# EAGLE library part LFXP20C_XXF484 (library lattice1)
lfxp20c_fpbga484 edit this description Auto generated by make-symbol-device-package-bsdl.ulp Rev. 20 Source: lfxp20c_fpbga484.bsm
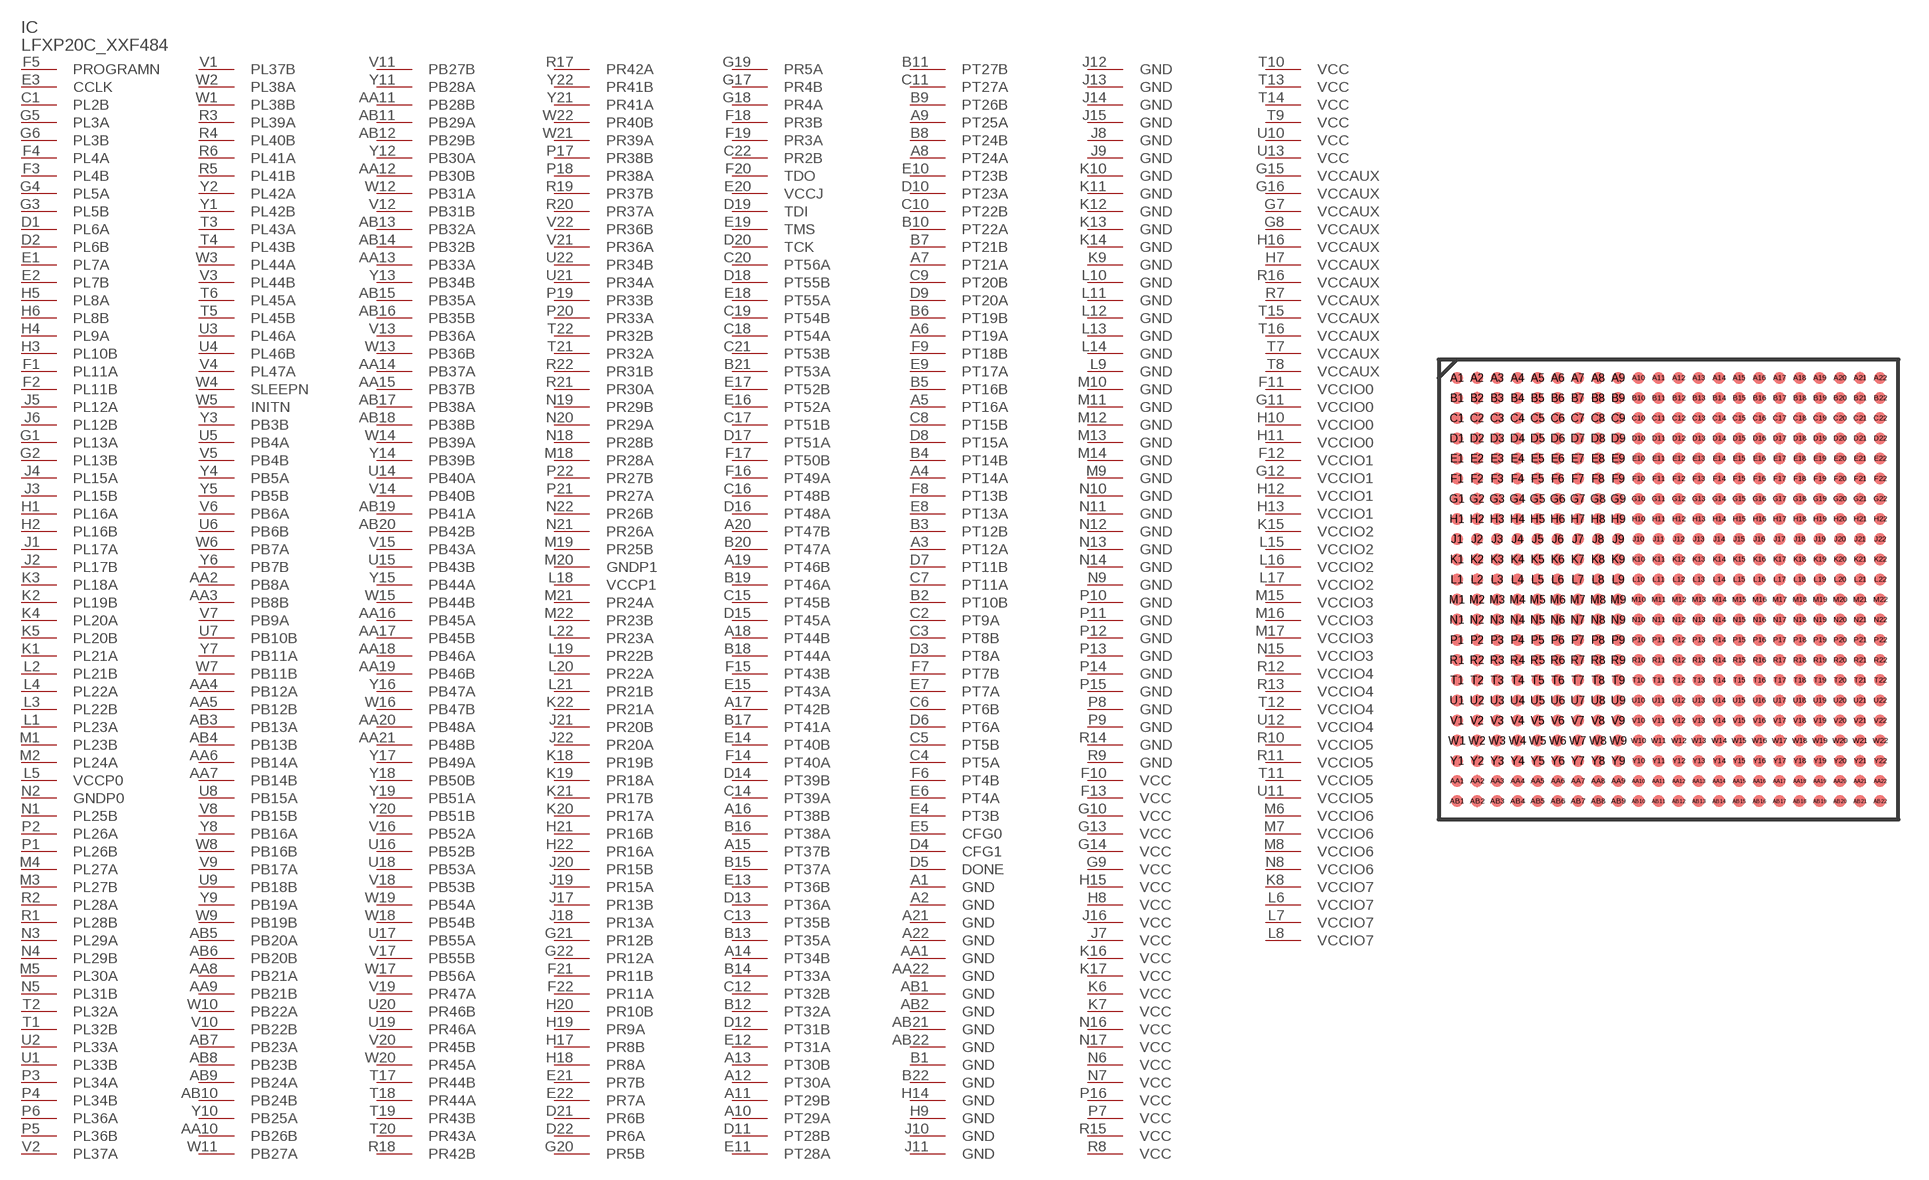
[diagram p24: symbol with the pads of FPBGA_484; footprint FPBGA_484]

Designator prefix IC

## LFXP20C_XXF484  [FPBGA_484]
A1  GND  pwr
A2  GND  pwr
A3  PT12A
A4  PT14A
A5  PT16A
A6  PT19A
A7  PT21A
A8  PT24A
A9  PT25A
A10  PT29A
A11  PT29B
A12  PT30A
A13  PT30B
A14  PT34B
A15  PT37B
A16  PT38B
A17  PT42B
A18  PT44B
A19  PT46B
A20  PT47B
A21  GND  pwr
A22  GND  pwr
AA1  GND  pwr
AA2  PB8A
AA3  PB8B
AA4  PB12A
AA5  PB12B
AA6  PB14A
AA7  PB14B
AA8  PB21A
AA9  PB21B
AA10  PB26B
AA11  PB28B
AA12  PB30B
AA13  PB33A
AA14  PB37A
AA15  PB37B
AA16  PB45A
AA17  PB45B
AA18  PB46A
AA19  PB46B
AA20  PB48A
AA21  PB48B
AA22  GND  pwr
AB1  GND  pwr
AB2  GND  pwr
AB3  PB13A
AB4  PB13B
AB5  PB20A
AB6  PB20B
AB7  PB23A
AB8  PB23B
AB9  PB24A
AB10  PB24B
AB11  PB29A
AB12  PB29B
AB13  PB32A
AB14  PB32B
AB15  PB35A
AB16  PB35B
AB17  PB38A
AB18  PB38B
AB19  PB41A
AB20  PB42B
AB21  GND  pwr
AB22  GND  pwr
B1  GND  pwr
B2  PT10B
B3  PT12B
B4  PT14B
B5  PT16B
B6  PT19B
B7  PT21B
B8  PT24B
B9  PT26B
B10  PT22A
B11  PT27B
B12  PT32A
B13  PT35A
B14  PT33A
B15  PT37A
B16  PT38A
B17  PT41A
B18  PT44A
B19  PT46A
B20  PT47A
B21  PT53A
B22  GND  pwr
C1  PL2B
C2  PT9A
C3  PT8B
C4  PT5A
C5  PT5B
C6  PT6B
C7  PT11A
C8  PT15B
C9  PT20B
C10  PT22B
C11  PT27A
C12  PT32B
C13  PT35B
C14  PT39A
C15  PT45B
C16  PT48B
C17  PT51B
C18  PT54A
C19  PT54B
C20  PT56A
C21  PT53B
C22  PR2B
D1  PL6A
D2  PL6B
D3  PT8A
D4  CFG1  in
D5  DONE
D6  PT6A
D7  PT11B
D8  PT15A
D9  PT20A
D10  PT23A
D11  PT28B
D12  PT31B
D13  PT36A
D14  PT39B
D15  PT45A
D16  PT48A
D17  PT51A
D18  PT55B
D19  TDI  in
D20  TCK  in
D21  PR6B
D22  PR6A
E1  PL7A
E2  PL7B
E3  CCLK
E4  PT3B
E5  CFG0  in
E6  PT4A
E7  PT7A
E8  PT13A
E9  PT17A
E10  PT23B
E11  PT28A
E12  PT31A
E13  PT36B
E14  PT40B
E15  PT43A
E16  PT52A
E17  PT52B
E18  PT55A
E19  TMS  in
E20  VCCJ  pwr
E21  PR7B
E22  PR7A
F1  PL11A
F2  PL11B
F3  PL4B
F4  PL4A
F5  PROGRAMN  in
F6  PT4B
F7  PT7B
F8  PT13B
F9  PT18B
F10  VCC  pwr
F11  VCCIO0  pwr
F12  VCCIO1  pwr
F13  VCC  pwr
F14  PT40A
F15  PT43B
F16  PT49A
F17  PT50B
F18  PR3B
F19  PR3A
F20  TDO  out
F21  PR11B
F22  PR11A
G1  PL13A
G2  PL13B
G3  PL5B
G4  PL5A
G5  PL3A
G6  PL3B
G7  VCCAUX  pwr
G8  VCCAUX  pwr
G9  VCC  pwr
G10  VCC  pwr
G11  VCCIO0  pwr
G12  VCCIO1  pwr
G13  VCC  pwr
G14  VCC  pwr
G15  VCCAUX  pwr
G16  VCCAUX  pwr
G17  PR4B
G18  PR4A
G19  PR5A
G20  PR5B
G21  PR12B
G22  PR12A
H1  PL16A
H2  PL16B
H3  PL10B
H4  PL9A
H5  PL8A
H6  PL8B
H7  VCCAUX  pwr
H8  VCC  pwr
H9  GND  pwr
H10  VCCIO0  pwr
H11  VCCIO0  pwr
H12  VCCIO1  pwr
H13  VCCIO1  pwr
H14  GND  pwr
H15  VCC  pwr
H16  VCCAUX  pwr
H17  PR8B
H18  PR8A
H19  PR9A
H20  PR10B
H21  PR16B
H22  PR16A
J1  PL17A
J2  PL17B
J3  PL15B
J4  PL15A
J5  PL12A
J6  PL12B
J7  VCC  pwr
J8  GND  pwr
J9  GND  pwr
J10  GND  pwr
J11  GND  pwr
J12  GND  pwr
J13  GND  pwr
J14  GND  pwr
J15  GND  pwr
J16  VCC  pwr
J17  PR13B
J18  PR13A
J19  PR15A
J20  PR15B
J21  PR20B
J22  PR20A
K1  PL21A
K2  PL19B
K3  PL18A
K4  PL20A
K5  PL20B
K6  VCC  pwr
K7  VCC  pwr
K8  VCCIO7  pwr
K9  GND  pwr
K10  GND  pwr
K11  GND  pwr
K12  GND  pwr
K13  GND  pwr
K14  GND  pwr
K15  VCCIO2  pwr
K16  VCC  pwr
K17  VCC  pwr
K18  PR19B
K19  PR18A
K20  PR17A
K21  PR17B
K22  PR21A
L1  PL23A
L2  PL21B
L3  PL22B
L4  PL22A
L5  VCCP0  pwr
L6  VCCIO7  pwr
L7  VCCIO7  pwr
L8  VCCIO7  pwr
L9  GND  pwr
L10  GND  pwr
L11  GND  pwr
L12  GND  pwr
L13  GND  pwr
L14  GND  pwr
L15  VCCIO2  pwr
L16  VCCIO2  pwr
L17  VCCIO2  pwr
L18  VCCP1  pwr
L19  PR22B
L20  PR22A
L21  PR21B
L22  PR23A
M1  PL23B
M2  PL24A
M3  PL27B
M4  PL27A
M5  PL30A
M6  VCCIO6  pwr
M7  VCCIO6  pwr
M8  VCCIO6  pwr
M9  GND  pwr
M10  GND  pwr
M11  GND  pwr
M12  GND  pwr
M13  GND  pwr
M14  GND  pwr
M15  VCCIO3  pwr
M16  VCCIO3  pwr
M17  VCCIO3  pwr
M18  PR28A
M19  PR25B
M20  GNDP1  pwr
M21  PR24A
M22  PR23B
N1  PL25B
N2  GNDP0  pwr
N3  PL29A
N4  PL29B
N5  PL31B
N6  VCC  pwr
N7  VCC  pwr
N8  VCCIO6  pwr
N9  GND  pwr
N10  GND  pwr
N11  GND  pwr
N12  GND  pwr
N13  GND  pwr
N14  GND  pwr
N15  VCCIO3  pwr
N16  VCC  pwr
N17  VCC  pwr
N18  PR28B
N19  PR29B
N20  PR29A
N21  PR26A
N22  PR26B
P1  PL26B
P2  PL26A
P3  PL34A
P4  PL34B
P5  PL36B
P6  PL36A
P7  VCC  pwr
P8  GND  pwr
P9  GND  pwr
P10  GND  pwr
P11  GND  pwr
P12  GND  pwr
P13  GND  pwr
P14  GND  pwr
P15  GND  pwr
P16  VCC  pwr
P17  PR38B
P18  PR38A
P19  PR33B
P20  PR33A
P21  PR27A
P22  PR27B
R1  PL28B
R2  PL28A
R3  PL39A
R4  PL40B
R5  PL41B
R6  PL41A
R7  VCCAUX  pwr
R8  VCC  pwr
R9  GND  pwr
R10  VCCIO5  pwr
R11  VCCIO5  pwr
R12  VCCIO4  pwr
R13  VCCIO4  pwr
R14  GND  pwr
R15  VCC  pwr
R16  VCCAUX  pwr
R17  PR42A
R18  PR42B
R19  PR37B
R20  PR37A
R21  PR30A
R22  PR31B
T1  PL32B
T2  PL32A
T3  PL43A
T4  PL43B
T5  PL45B
T6  PL45A
T7  VCCAUX  pwr
T8  VCCAUX  pwr
T9  VCC  pwr
T10  VCC  pwr
T11  VCCIO5  pwr
T12  VCCIO4  pwr
T13  VCC  pwr
T14  VCC  pwr
T15  VCCAUX  pwr
T16  VCCAUX  pwr
T17  PR44B
T18  PR44A
T19  PR43B
T20  PR43A
T21  PR32A
T22  PR32B
U1  PL33B
U2  PL33A
U3  PL46A
U4  PL46B
U5  PB4A
U6  PB6B
U7  PB10B
U8  PB15A
U9  PB18B
U10  VCC  pwr
U11  VCCIO5  pwr
U12  VCCIO4  pwr
U13  VCC  pwr
U14  PB40A
U15  PB43B
U16  PB52B
U17  PB55A
U18  PB53A
U19  PR46A
U20  PR46B
U21  PR34A
U22  PR34B
V1  PL37B
V2  PL37A
V3  PL44B
V4  PL47A
V5  PB4B
V6  PB6A
V7  PB9A
V8  PB15B
V9  PB17A
V10  PB22B
V11  PB27B
V12  PB31B
V13  PB36A
V14  PB40B
V15  PB43A
V16  PB52A
V17  PB55B
V18  PB53B
V19  PR47A
V20  PR45B
V21  PR36A
V22  PR36B
W1  PL38B
W2  PL38A
W3  PL44A
W4  SLEEPN  in
W5  INITN
W6  PB7A
W7  PB11B
W8  PB16B
W9  PB19B
W10  PB22A
W11  PB27A
W12  PB31A
W13  PB36B
W14  PB39A
W15  PB44B
W16  PB47B
W17  PB56A
W18  PB54B
W19  PB54A
W20  PR45A
W21  PR39A
W22  PR40B
Y1  PL42B
Y2  PL42A
Y3  PB3B
Y4  PB5A
Y5  PB5B
Y6  PB7B
Y7  PB11A
Y8  PB16A
Y9  PB19A
Y10  PB25A
Y11  PB28A
Y12  PB30A
Y13  PB34B
Y14  PB39B
Y15  PB44A
Y16  PB47A
Y17  PB49A
Y18  PB50B
Y19  PB51A
Y20  PB51B
Y21  PR41A
Y22  PR41B

## Footprint FPBGA_484 (pad centres in mm)
lfxp15c_fpbga484 edit this description Auto generated by make-symbol-device-package-bsdl.ulp Rev. 20 Source: lfxp15c_fpbga484.bsm
smd 0.6 x 0.6: A1 -10.5,10.5; A2 -9.5,10.5; A3 -8.5,10.5; A4 -7.5,10.5; A5 -6.5,10.5; A6 -5.5,10.5; A7 -4.5,10.5; A8 -3.5,10.5; A9 -2.5,10.5; A10 -1.5,10.5; A11 -0.5,10.5; A12 0.5,10.5; A13 1.5,10.5; A14 2.5,10.5; A15 3.5,10.5; A16 4.5,10.5; A17 5.5,10.5; A18 6.5,10.5; A19 7.5,10.5; A20 8.5,10.5; A21 9.5,10.5; A22 10.5,10.5; AA1 -10.5,-9.5; AA2 -9.5,-9.5; AA3 -8.5,-9.5; AA4 -7.5,-9.5; AA5 -6.5,-9.5; AA6 -5.5,-9.5; AA7 -4.5,-9.5; AA8 -3.5,-9.5; AA9 -2.5,-9.5; AA10 -1.5,-9.5; AA11 -0.5,-9.5; AA12 0.5,-9.5; AA13 1.5,-9.5; AA14 2.5,-9.5; AA15 3.5,-9.5; AA16 4.5,-9.5; AA17 5.5,-9.5; AA18 6.5,-9.5; AA19 7.5,-9.5; AA20 8.5,-9.5; AA21 9.5,-9.5; AA22 10.5,-9.5; AB1 -10.5,-10.5; AB2 -9.5,-10.5; AB3 -8.5,-10.5; AB4 -7.5,-10.5; AB5 -6.5,-10.5; AB6 -5.5,-10.5; AB7 -4.5,-10.5; AB8 -3.5,-10.5; AB9 -2.5,-10.5; AB10 -1.5,-10.5; AB11 -0.5,-10.5; AB12 0.5,-10.5; AB13 1.5,-10.5; AB14 2.5,-10.5; AB15 3.5,-10.5; AB16 4.5,-10.5; AB17 5.5,-10.5; AB18 6.5,-10.5; AB19 7.5,-10.5; AB20 8.5,-10.5; AB21 9.5,-10.5; AB22 10.5,-10.5; B1 -10.5,9.5; B2 -9.5,9.5; B3 -8.5,9.5; B4 -7.5,9.5; B5 -6.5,9.5; B6 -5.5,9.5; B7 -4.5,9.5; B8 -3.5,9.5; B9 -2.5,9.5; B10 -1.5,9.5; B11 -0.5,9.5; B12 0.5,9.5; B13 1.5,9.5; B14 2.5,9.5; B15 3.5,9.5; B16 4.5,9.5; B17 5.5,9.5; B18 6.5,9.5; B19 7.5,9.5; B20 8.5,9.5; B21 9.5,9.5; B22 10.5,9.5; C1 -10.5,8.5; C2 -9.5,8.5; C3 -8.5,8.5; C4 -7.5,8.5; C5 -6.5,8.5; C6 -5.5,8.5; C7 -4.5,8.5; C8 -3.5,8.5; C9 -2.5,8.5; C10 -1.5,8.5; C11 -0.5,8.5; C12 0.5,8.5; C13 1.5,8.5; C14 2.5,8.5; C15 3.5,8.5; C16 4.5,8.5; C17 5.5,8.5; C18 6.5,8.5; C19 7.5,8.5; C20 8.5,8.5; C21 9.5,8.5; C22 10.5,8.5; D1 -10.5,7.5; D2 -9.5,7.5; D3 -8.5,7.5; D4 -7.5,7.5; D5 -6.5,7.5; D6 -5.5,7.5; D7 -4.5,7.5; D8 -3.5,7.5; D9 -2.5,7.5; D10 -1.5,7.5; D11 -0.5,7.5; D12 0.5,7.5; D13 1.5,7.5; D14 2.5,7.5; D15 3.5,7.5; D16 4.5,7.5; D17 5.5,7.5; D18 6.5,7.5; D19 7.5,7.5; D20 8.5,7.5; D21 9.5,7.5; D22 10.5,7.5; E1 -10.5,6.5; E2 -9.5,6.5; E3 -8.5,6.5; E4 -7.5,6.5; E5 -6.5,6.5; E6 -5.5,6.5; E7 -4.5,6.5; E8 -3.5,6.5; E9 -2.5,6.5; E10 -1.5,6.5; E11 -0.5,6.5; E12 0.5,6.5; E13 1.5,6.5; E14 2.5,6.5; E15 3.5,6.5; E16 4.5,6.5; E17 5.5,6.5; E18 6.5,6.5; E19 7.5,6.5; E20 8.5,6.5; E21 9.5,6.5; E22 10.5,6.5; F1 -10.5,5.5; F2 -9.5,5.5; F3 -8.5,5.5; F4 -7.5,5.5; F5 -6.5,5.5; F6 -5.5,5.5; F7 -4.5,5.5; F8 -3.5,5.5; F9 -2.5,5.5; F10 -1.5,5.5; F11 -0.5,5.5; F12 0.5,5.5; F13 1.5,5.5; F14 2.5,5.5; F15 3.5,5.5; F16 4.5,5.5; F17 5.5,5.5; F18 6.5,5.5; F19 7.5,5.5; F20 8.5,5.5; F21 9.5,5.5; F22 10.5,5.5; G1 -10.5,4.5; G2 -9.5,4.5; G3 -8.5,4.5; G4 -7.5,4.5; G5 -6.5,4.5; G6 -5.5,4.5; G7 -4.5,4.5; G8 -3.5,4.5; G9 -2.5,4.5; G10 -1.5,4.5; G11 -0.5,4.5; G12 0.5,4.5; G13 1.5,4.5; G14 2.5,4.5; G15 3.5,4.5; G16 4.5,4.5; G17 5.5,4.5; G18 6.5,4.5; G19 7.5,4.5; G20 8.5,4.5; G21 9.5,4.5; G22 10.5,4.5; H1 -10.5,3.5; H2 -9.5,3.5; H3 -8.5,3.5; H4 -7.5,3.5; H5 -6.5,3.5; H6 -5.5,3.5; H7 -4.5,3.5; H8 -3.5,3.5; H9 -2.5,3.5; H10 -1.5,3.5; H11 -0.5,3.5; H12 0.5,3.5; H13 1.5,3.5; H14 2.5,3.5; H15 3.5,3.5; H16 4.5,3.5; H17 5.5,3.5; H18 6.5,3.5; H19 7.5,3.5; H20 8.5,3.5; H21 9.5,3.5; H22 10.5,3.5; J1 -10.5,2.5; J2 -9.5,2.5; J3 -8.5,2.5; J4 -7.5,2.5; J5 -6.5,2.5; J6 -5.5,2.5; J7 -4.5,2.5; J8 -3.5,2.5; J9 -2.5,2.5; J10 -1.5,2.5; J11 -0.5,2.5; J12 0.5,2.5; J13 1.5,2.5; J14 2.5,2.5; J15 3.5,2.5; J16 4.5,2.5; J17 5.5,2.5; J18 6.5,2.5; J19 7.5,2.5; J20 8.5,2.5; J21 9.5,2.5; J22 10.5,2.5; K1 -10.5,1.5; K2 -9.5,1.5; K3 -8.5,1.5; K4 -7.5,1.5; K5 -6.5,1.5; K6 -5.5,1.5; K7 -4.5,1.5; K8 -3.5,1.5; K9 -2.5,1.5; K10 -1.5,1.5; K11 -0.5,1.5; K12 0.5,1.5; K13 1.5,1.5; K14 2.5,1.5; K15 3.5,1.5; K16 4.5,1.5; K17 5.5,1.5; K18 6.5,1.5; K19 7.5,1.5; K20 8.5,1.5; K21 9.5,1.5; K22 10.5,1.5; L1 -10.5,0.5; L2 -9.5,0.5; L3 -8.5,0.5; L4 -7.5,0.5; L5 -6.5,0.5; L6 -5.5,0.5; L7 -4.5,0.5; L8 -3.5,0.5; L9 -2.5,0.5; L10 -1.5,0.5; L11 -0.5,0.5; L12 0.5,0.5; L13 1.5,0.5; L14 2.5,0.5; L15 3.5,0.5; L16 4.5,0.5; L17 5.5,0.5; L18 6.5,0.5; L19 7.5,0.5; L20 8.5,0.5; L21 9.5,0.5; L22 10.5,0.5; M1 -10.5,-0.5; M2 -9.5,-0.5; M3 -8.5,-0.5; M4 -7.5,-0.5; M5 -6.5,-0.5; M6 -5.5,-0.5; M7 -4.5,-0.5; M8 -3.5,-0.5; M9 -2.5,-0.5; M10 -1.5,-0.5; M11 -0.5,-0.5; M12 0.5,-0.5; M13 1.5,-0.5; M14 2.5,-0.5; M15 3.5,-0.5; M16 4.5,-0.5; M17 5.5,-0.5; M18 6.5,-0.5; M19 7.5,-0.5; M20 8.5,-0.5; M21 9.5,-0.5; M22 10.5,-0.5; N1 -10.5,-1.5; N2 -9.5,-1.5; N3 -8.5,-1.5; N4 -7.5,-1.5; N5 -6.5,-1.5; N6 -5.5,-1.5; N7 -4.5,-1.5; N8 -3.5,-1.5; N9 -2.5,-1.5; N10 -1.5,-1.5; N11 -0.5,-1.5; N12 0.5,-1.5; N13 1.5,-1.5; N14 2.5,-1.5; N15 3.5,-1.5; N16 4.5,-1.5; N17 5.5,-1.5; N18 6.5,-1.5; N19 7.5,-1.5; N20 8.5,-1.5; N21 9.5,-1.5; N22 10.5,-1.5; P1 -10.5,-2.5; P2 -9.5,-2.5; P3 -8.5,-2.5; P4 -7.5,-2.5; P5 -6.5,-2.5; P6 -5.5,-2.5; P7 -4.5,-2.5; P8 -3.5,-2.5; P9 -2.5,-2.5; P10 -1.5,-2.5; P11 -0.5,-2.5; P12 0.5,-2.5; P13 1.5,-2.5; P14 2.5,-2.5; P15 3.5,-2.5; P16 4.5,-2.5; P17 5.5,-2.5; P18 6.5,-2.5; P19 7.5,-2.5; P20 8.5,-2.5; P21 9.5,-2.5; P22 10.5,-2.5; R1 -10.5,-3.5; R2 -9.5,-3.5; R3 -8.5,-3.5; R4 -7.5,-3.5; R5 -6.5,-3.5; R6 -5.5,-3.5; R7 -4.5,-3.5; R8 -3.5,-3.5; R9 -2.5,-3.5; R10 -1.5,-3.5; R11 -0.5,-3.5; R12 0.5,-3.5; R13 1.5,-3.5; R14 2.5,-3.5; R15 3.5,-3.5; R16 4.5,-3.5; R17 5.5,-3.5; R18 6.5,-3.5; R19 7.5,-3.5; R20 8.5,-3.5; R21 9.5,-3.5; R22 10.5,-3.5; T1 -10.5,-4.5; T2 -9.5,-4.5; T3 -8.5,-4.5; T4 -7.5,-4.5; T5 -6.5,-4.5; T6 -5.5,-4.5; T7 -4.5,-4.5; T8 -3.5,-4.5; T9 -2.5,-4.5; T10 -1.5,-4.5; T11 -0.5,-4.5; T12 0.5,-4.5; T13 1.5,-4.5; T14 2.5,-4.5; T15 3.5,-4.5; T16 4.5,-4.5; T17 5.5,-4.5; T18 6.5,-4.5; T19 7.5,-4.5; T20 8.5,-4.5; T21 9.5,-4.5; T22 10.5,-4.5; U1 -10.5,-5.5; U2 -9.5,-5.5; U3 -8.5,-5.5; U4 -7.5,-5.5; U5 -6.5,-5.5; U6 -5.5,-5.5; U7 -4.5,-5.5; U8 -3.5,-5.5; U9 -2.5,-5.5; U10 -1.5,-5.5; U11 -0.5,-5.5; U12 0.5,-5.5; U13 1.5,-5.5; U14 2.5,-5.5; U15 3.5,-5.5; U16 4.5,-5.5; U17 5.5,-5.5; U18 6.5,-5.5; U19 7.5,-5.5; U20 8.5,-5.5; U21 9.5,-5.5; U22 10.5,-5.5; V1 -10.5,-6.5; V2 -9.5,-6.5; V3 -8.5,-6.5; V4 -7.5,-6.5; V5 -6.5,-6.5; V6 -5.5,-6.5; V7 -4.5,-6.5; V8 -3.5,-6.5; V9 -2.5,-6.5; V10 -1.5,-6.5; V11 -0.5,-6.5; V12 0.5,-6.5; V13 1.5,-6.5; V14 2.5,-6.5; V15 3.5,-6.5; V16 4.5,-6.5; V17 5.5,-6.5; V18 6.5,-6.5; V19 7.5,-6.5; V20 8.5,-6.5; V21 9.5,-6.5; V22 10.5,-6.5; W1 -10.5,-7.5; W2 -9.5,-7.5; W3 -8.5,-7.5; W4 -7.5,-7.5; W5 -6.5,-7.5; W6 -5.5,-7.5; W7 -4.5,-7.5; W8 -3.5,-7.5; W9 -2.5,-7.5; W10 -1.5,-7.5; W11 -0.5,-7.5; W12 0.5,-7.5; W13 1.5,-7.5; W14 2.5,-7.5; W15 3.5,-7.5; W16 4.5,-7.5; W17 5.5,-7.5; W18 6.5,-7.5; W19 7.5,-7.5; W20 8.5,-7.5; W21 9.5,-7.5; W22 10.5,-7.5; Y1 -10.5,-8.5; Y2 -9.5,-8.5; Y3 -8.5,-8.5; Y4 -7.5,-8.5; Y5 -6.5,-8.5; Y6 -5.5,-8.5; Y7 -4.5,-8.5; Y8 -3.5,-8.5; Y9 -2.5,-8.5; Y10 -1.5,-8.5; Y11 -0.5,-8.5; Y12 0.5,-8.5; Y13 1.5,-8.5; Y14 2.5,-8.5; Y15 3.5,-8.5; Y16 4.5,-8.5; Y17 5.5,-8.5; Y18 6.5,-8.5; Y19 7.5,-8.5; Y20 8.5,-8.5; Y21 9.5,-8.5; Y22 10.5,-8.5